# Altium footprint library PcbLib1.PcbLib: 85 footprints (part 4 of 6)
Each footprint in its own frame and in the unit in brackets; x right, y up, seen from the top. Pads: shape width x height; smd on the part's side, far side on the other; paste and mask are expansions set on the pad; w line width, h text height; cw(c..) or ccw(c..) is an arc to the next point about the centre after c.
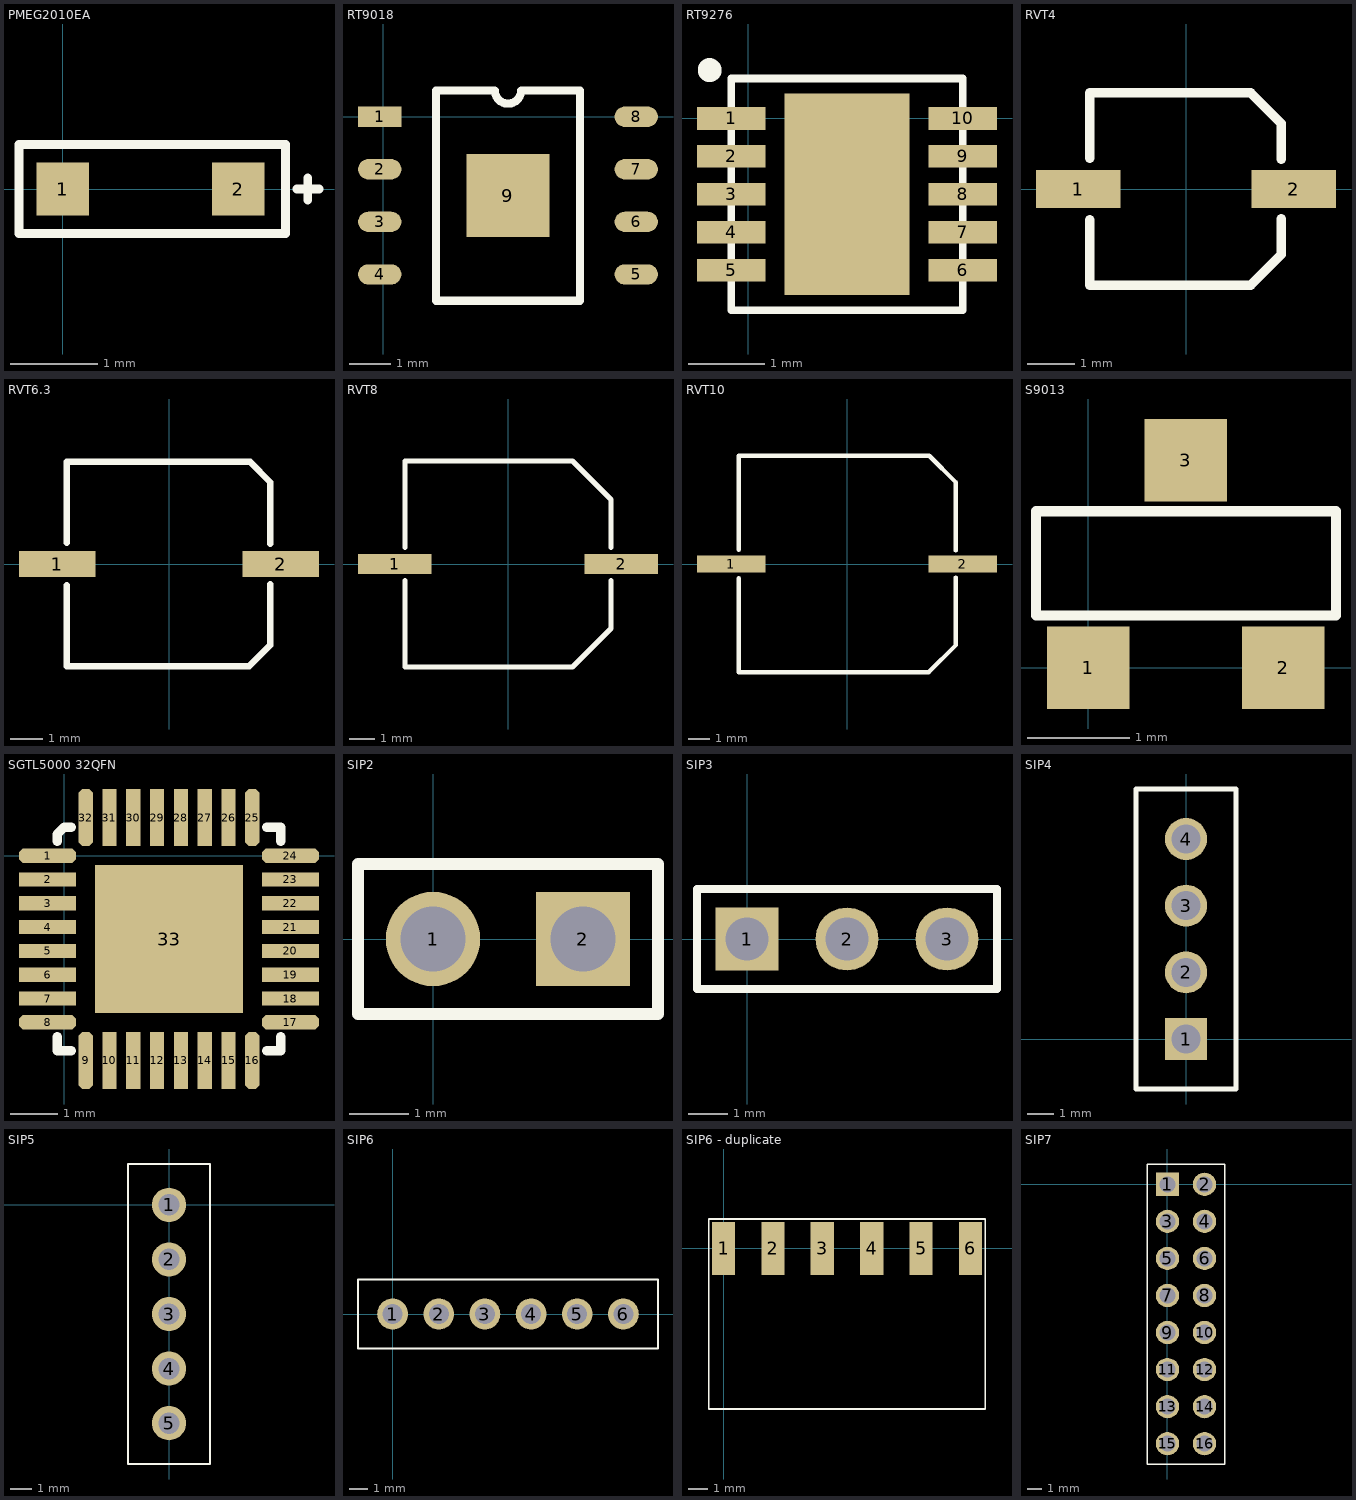
[diagram p3: the footprints below, top view; thin cyan lines are the x and y axes]

## PMEG2010EA [mm]
pads (2):
  rect 0.6x0.6 smd: 1(0,0) 2(2,0)
Top Overlay:
  lines w0.1: 2.667,0 2.921,0 ; 2.794,-0.127 2.794,0.127 ; -0.5,-0.508 -0.5,0.508 2.54,0.508 2.54,-0.508 -0.5,-0.508

## RT9018 [mm]
pads (9):
  rect 1.05x0.49 smd: 1(-0.09,0)
  oval 1.05x0.49 smd: 2(-0.09,-1.27) 3(-0.09,-2.54) 4(-0.09,-3.81) 5(6.11,-3.81) 6(6.11,-2.54) 7(6.11,-1.27) 8(6.11,0)
  rect 2x2 smd: 9(3.01,-1.905)
Top Overlay:
  lines w0.2: 1.27,-4.445 4.75,-4.445 4.75,0.635 3.327,0.635 cw(c3.01,0.635) 2.692,0.635 1.27,0.635 1.27,-4.445

## RT9276 [mm]
pads (11):
  rect 0.9x0.3 smd: 1(-0.225,0) 2(-0.225,-0.5) 3(-0.225,-1) 4(-0.225,-1.5) 5(-0.225,-2) 6(2.825,-2) 7(2.825,-1.5) 8(2.825,-1) 9(2.825,-0.5) 10(2.825,0)
  rect 1.65x2.65 smd: ""(1.3,-1)
Top Overlay:
  circle w0.254: c-0.508,0.635 r0.03
  lines w0.1: -0.225,-2.525 -0.225,0.525 2.825,0.525 2.825,-2.525 -0.225,-2.525

## RVT4 [mm]
pads (2):
  rect 1.8x0.8 smd: 1(-2.3,0) 2(2.3,0)
Top Overlay:
  lines w0.2: -2.05,-0.653 -2.05,-2.05 1.379,-2.05 2.032,-1.397 2.032,-0.635 ; -2.05,0.653 -2.05,2.05 1.379,2.05 ; 1.397,2.032 2.032,1.397 2.032,0.635

## RVT6.3 [mm]
pads (2):
  rect 2.4x0.8 smd: 1(-3.5,0) 2(3.5,0)
Top Overlay:
  lines w0.2: -3.2,-0.66 -3.2,-3.2 2.515,-3.2 ; -3.2,0.66 -3.2,3.2 2.54,3.2 3.175,2.565 3.175,0.635 ; 2.54,-3.175 3.175,-2.54 3.175,-0.635

## RVT8 [mm]
pads (2):
  rect 2.9x0.8 smd: 1(-4.45,0) 2(4.45,0)
Top Overlay:
  lines w0.2: -4.05,-0.648 -4.05,-4.05 2.54,-4.05 4.05,-2.54 4.05,-2.526 4.05,-1.794 4.05,-0.649 ; -4.05,0.648 -4.05,4.05 2.54,4.05 4.05,2.54 4.05,2.526 4.05,1.54 4.05,0.649

## RVT10 [mm]
pads (2):
  rect 3.2x0.8 smd: 1(-5.4,0) 2(5.4,0)
Top Overlay:
  lines w0.2: -5.05,-0.665 -5.05,-5.05 3.81,-5.05 5.08,-3.78 5.08,-0.635 ; -5.05,0.665 -5.05,5.05 3.84,5.05 ; 3.81,5.05 3.84,5.05 ; 5.08,0.635 5.08,3.81 3.84,5.05

## S9013 [mm]
pads (3):
  rect 0.8x0.8 smd: 1(0,0) 2(1.9,0) 3(0.95,2.02)
Top Overlay:
  lines w0.1: -0.508,0.508 -0.508,1.524 2.413,1.524 2.413,0.508 -0.508,0.508

## SGTL5000 32QFN [mm]
pads (33):
  oct 1.2x0.3 smd: 1(-0.35,0) 8(-0.35,-3.5) 17(4.75,-3.5) 24(4.75,0)
  rect 1.2x0.3 smd: 2(-0.35,-0.5) 3(-0.35,-1) 4(-0.35,-1.5) 5(-0.35,-2) 6(-0.35,-2.5) 7(-0.35,-3) 18(4.75,-3) 19(4.75,-2.5) 20(4.75,-2) 21(4.75,-1.5) 22(4.75,-1) 23(4.75,-0.5)
  oct 0.3x1.2 smd: 9(0.45,-4.3) 16(3.95,-4.3) 25(3.95,0.8) 32(0.45,0.8)
  rect 0.3x1.2 smd: 10(0.95,-4.3) 11(1.45,-4.3) 12(1.95,-4.3) 13(2.45,-4.3) 14(2.95,-4.3) 15(3.45,-4.3) 26(3.45,0.8) 27(2.95,0.8) 28(2.45,0.8) 29(1.95,0.8) 30(1.45,0.8) 31(0.95,0.8)
  rect 3.1x3.1 smd: 33(2.2,-1.75)
Top Overlay:
  lines w0.2: -0.15,-3.8 -0.15,-4.1 0.15,-4.1 ; -0.15,0.3 -0.15,0.45 0,0.6 0.15,0.6 ; 4.25,-4.1 4.55,-4.1 4.55,-3.8 ; 4.25,0.6 4.55,0.6 4.55,0.3

## SIP2 [mm]
pads (2):
  round 1.6 hole 1.1: 1(0,0)
  rect 1.6x1.6 hole 1.1: 2(2.54,0)
Top Overlay:
  lines w0.2: -1.27,-1.27 3.81,-1.27 3.81,1.27 -1.27,1.27 -1.27,-1.27

## SIP3 [mm]
pads (3):
  rect 1.6x1.6 hole 1.1: 1(0,0)
  round 1.6 hole 1.1: 2(2.54,0) 3(5.08,0)
Top Overlay:
  lines w0.2: -1.27,-1.27 -1.27,1.27 6.35,1.27 6.35,-1.27 -1.27,-1.27

## SIP4 [mm]
pads (4):
  rect 1.6x1.6 hole 1.1: 1(0,0)
  round 1.6 hole 1.1: 2(0,2.54) 3(0,5.08) 4(0,7.62)
Top Overlay:
  lines w0.2: -1.905,-1.905 -1.905,9.525 1.905,9.525 1.905,-1.905 -1.905,-1.905

## SIP5 [mm]
pads (5):
  round 1.6 hole 1: 1(0,0) 2(0,-2.54) 3(0,-5.08) 4(0,-7.62) 5(0,-10.16)
Top Overlay:
  lines w0.1: -1.905,-12.065 -1.905,1.905 1.905,1.905 1.905,-12.065 -1.905,-12.065

## SIP6 [mm]
pads (6):
  round 1.7 hole 1.1: 1(0,0) 2(2.54,0) 3(5.08,0) 4(7.62,0) 5(10.16,0) 6(12.7,0)
Top Overlay:
  lines w0.1: -1.905,-1.905 14.605,-1.905 14.605,1.905 -1.905,1.905 -1.905,-1.905

## SIP6 - duplicate [mm]
pads (6):
  rect 1.2x2.73 smd: 1(0,0) 2(2.54,0) 3(5.08,0) 4(7.62,0) 5(10.16,0) 6(12.7,0)
Top Overlay:
  lines w0.1: -0.762,-8.27 -0.762,-1.27 -0.762,1.524 13.462,1.524 13.462,-1.27 13.462,-8.27 1.067,-8.27 -0.762,-8.27

## SIP7 [mm]
pads (16):
  rect 1.6x1.6 hole 1.1: 1(0,0)
  round 1.6 hole 1.1: 2(2.54,0) 3(0,-2.54) 4(2.54,-2.54) 5(0,-5.08) 6(2.54,-5.08) 7(0,-7.62) 8(2.54,-7.62) 9(0,-10.16) 10(2.54,-10.16) 11(0,-12.7) 12(2.54,-12.7) 13(0,-15.24) 14(2.54,-15.24) 15(0,-17.78) 16(2.54,-17.78)
Top Overlay:
  lines w0.1: -1.397,-19.177 -1.397,1.397 3.937,1.397 3.937,-19.177 -1.397,-19.177